# EAGLE library part BLUETOOTH_BOARD (library Bluetooth HC-05)
Bluetooth Board V1.05
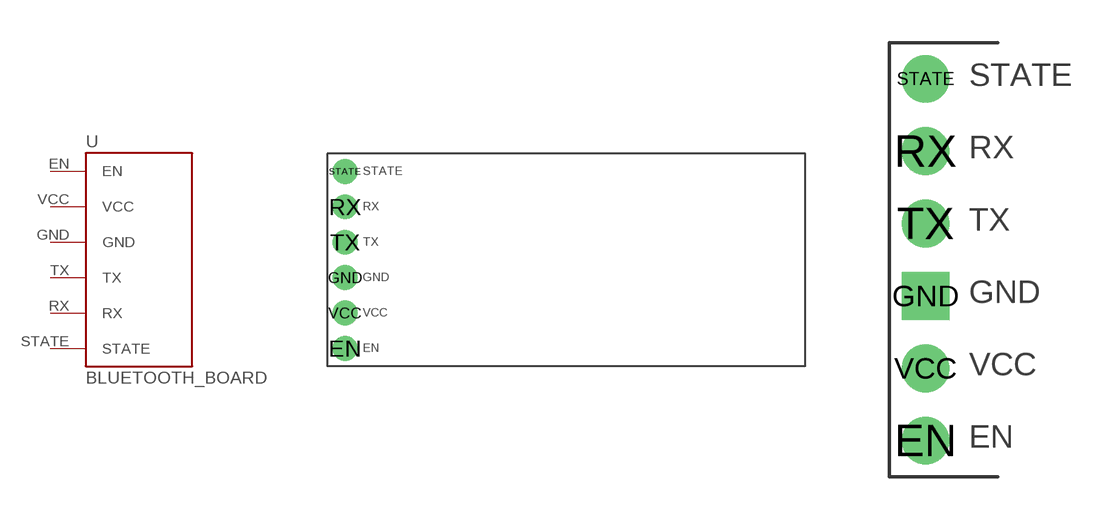
[diagram p0: symbol with the pads of BT_BOARD_FOOTPRINT; footprints BT_BOARD_FOOTPRINT, BT_BOARD_FOOTPRINT_STANDING]

Designator prefix -

## BLUETOOTH_BOARD  [BT_BOARD_FOOTPRINT]
EN  EN
GND  GND
RX  RX
STATE  STATE
TX  TX
VCC  VCC

## BLUETOOTH_BOARDSTANDING  [BT_BOARD_FOOTPRINT_STANDING]
Pads as for BT_BOARD_FOOTPRINT

## Footprint BT_BOARD_FOOTPRINT (pad centres in mm)
Bluetooth Board V1.05 Footprint
drill 0.9 pad 1.778: EN -16.51,-6.35; GND -16.51,-1.27; RX -16.51,3.81; STATE -16.51,6.35; TX -16.51,1.27; VCC -16.51,-3.81

## Footprint BT_BOARD_FOOTPRINT_STANDING (pad centres in mm)
drill 0.9 pad 1.676: EN -3.81,-6.35; RX -3.81,3.81; STATE -3.81,6.35; TX -3.81,1.27; VCC -3.81,-3.81
drill 0.9 pad 1.676 square: GND -3.81,-1.27